# Altium footprint library 10pin-molex.PcbLib: 1 footprints
Each footprint in its own frame and in the unit in brackets; x right, y up, seen from the top. Pads: shape width x height; smd on the part's side, far side on the other; paste and mask are expansions set on the pad; w line width, h text height; cw(c..) or ccw(c..) is an arc to the next point about the centre after c.
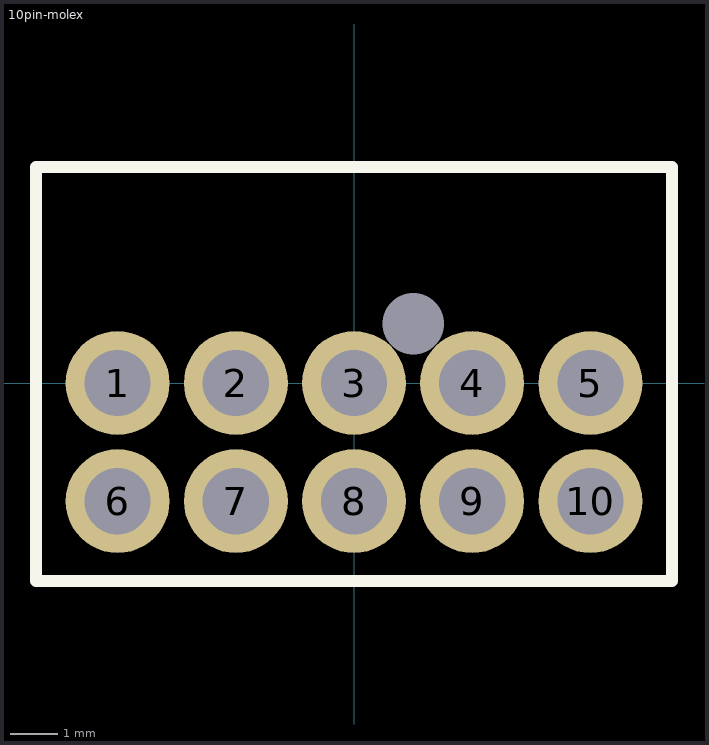
[diagram p0: the footprint, top view; thin cyan lines are the x and y axes]

## 10pin-molex [mm] "Nano-Fit Vertical Header, Through Hole, 2.50mm Pitch, Dual Row, 10 Circuits, with Kinked Pins, Tin (Sn) Plating, Black"
pads (11):
  round 2.2 hole 1.4: 1(-5,0) 2(-2.5,0) 3(0,0) 4(2.5,0) 5(5,0) 6(-5,-2.5) 7(-2.5,-2.5) 8(0,-2.5) 9(2.5,-2.5) 10(5,-2.5)
  round 0 hole 1.3: ""(1.25,1.25)
Top Overlay:
  lines w0.254: -6.731,-4.191 -6.731,4.572 6.731,4.572 6.731,-4.191 -6.731,-4.191
3D body "1053101110.stp": height 10.68, standoff -3.03, extent -6.72,-4.26 6.72,4.58